# Altium integrated library EEEHA1V470AP.IntLib: 1 symbol
Pins are listed as number, name and electrical type; pins without a type are passive.

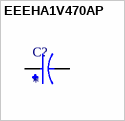
[diagram p0: symbol EEEHA1V470AP]

## EEEHA1V470AP
designator C?
47ÂµF 35V Aluminum Electrolytic Capacitors Radial, Can - SMD 1000 Hrs @ 105Â°C; MF: Panasonic; MP: EEE-HA1V470AP; Price: None; Value: *; Purchase-URL: https://pricing.snapeda.com/search/part/EEE-HA1V470AP/?ref=eda; Check_prices: https://www.snapeda.com/parts/EEE-HA1V470AP/Panasonic/view-part/?ref=eda; Package: RADIAL-2 Panasonic; Availability: In Stock; SnapEDA_Link: https://www.snapeda.com/parts/EEE-HA1V470AP/Panasonic/view-part/?ref=snap
footprint CAP_EEEHA1V470AP
pins: 1, 2